# Altium footprint library TMDX654GPEVM_BRD.PcbLib: 153 footprints (part 10 of 12)
Each footprint in its own frame and in the unit in brackets; x right, y up, seen from the top. Pads: shape width x height; smd on the part's side, far side on the other; paste and mask are expansions set on the pad; w line width, h text height; cw(c..) or ccw(c..) is an arc to the next point about the centre after c.
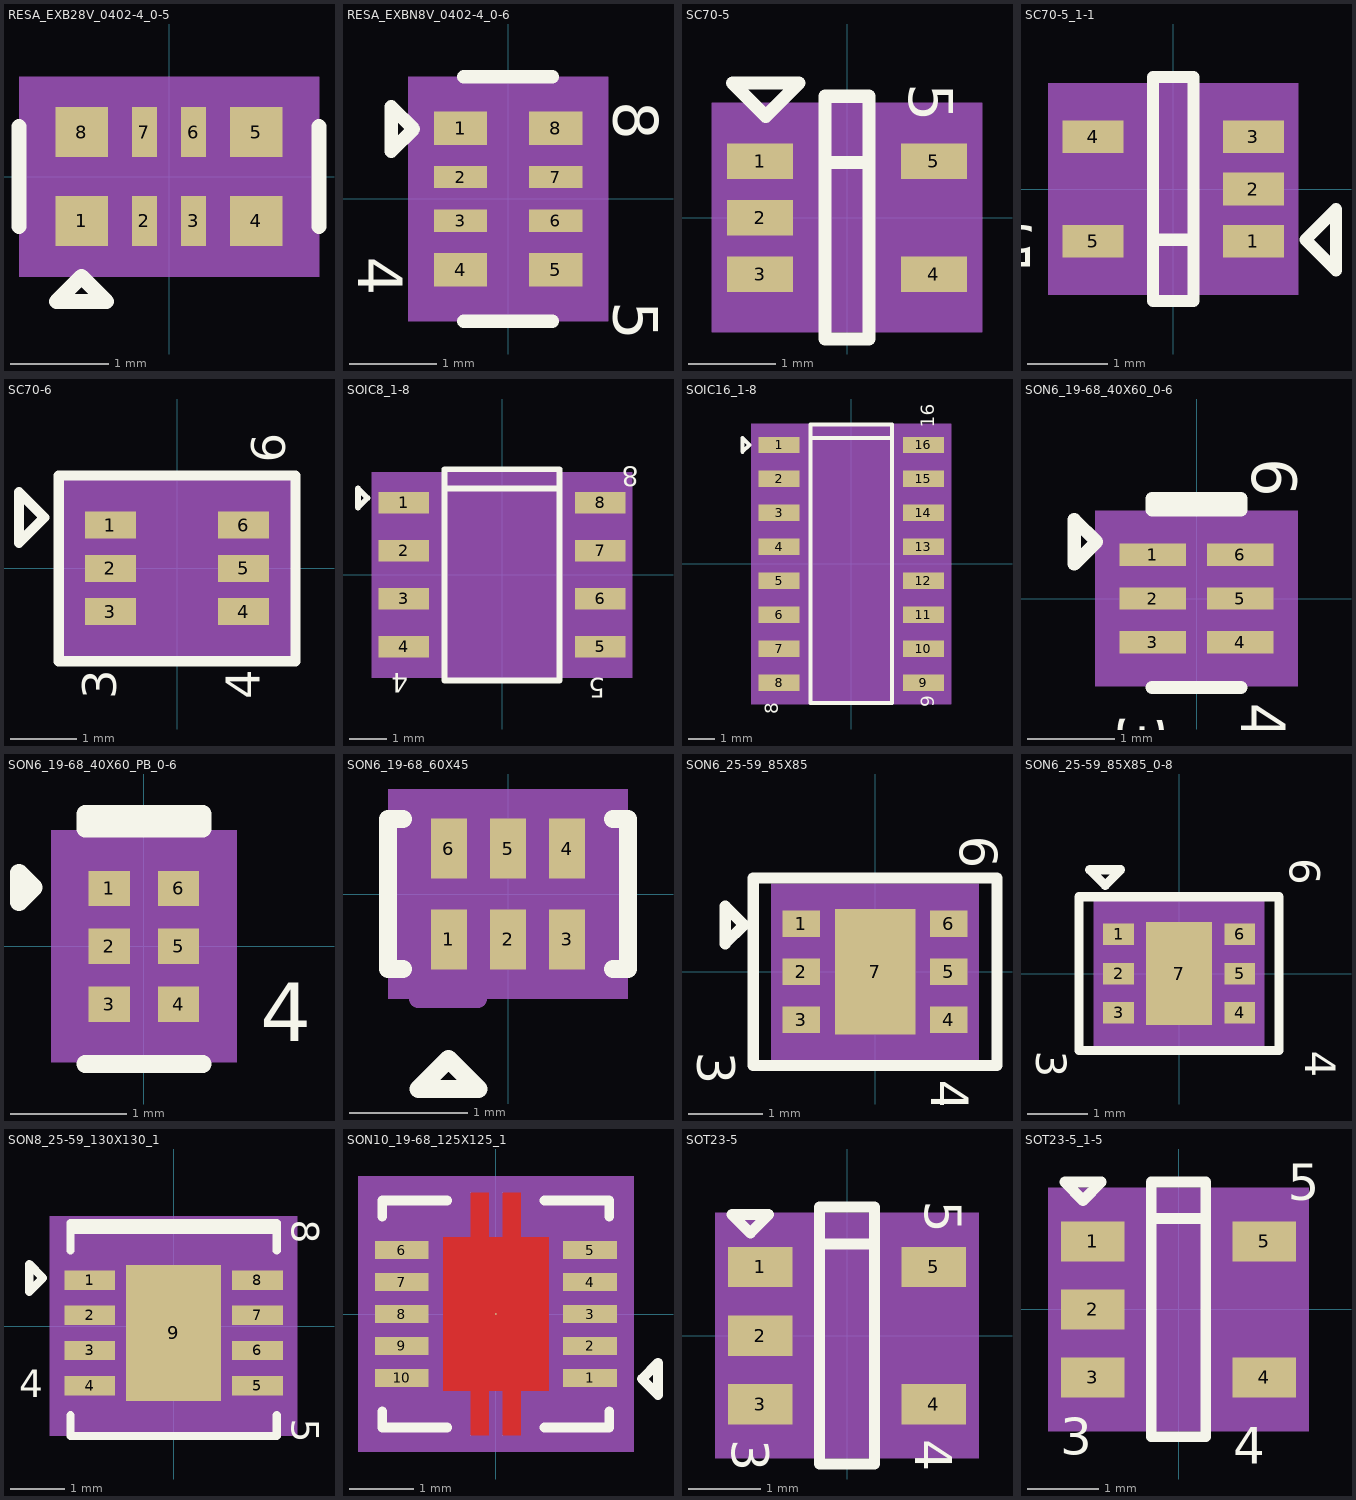
[diagram p9: the footprints below, top view; thin cyan lines are the x and y axes]

## RESA_EXB28V_0402-4_0-5 [mil] "RESA_EXB28V_0402-4_0-5"
pads (8):
  rect 21x20 smd: 1(-34.94,-17.72) 4(34.94,-17.72) 5(34.94,17.72) 8(-34.94,17.72)
  rect 10x20 smd: 2(-9.84,-17.72) 3(9.84,-17.72) 6(9.84,17.72) 7(-9.84,17.72)
Top Overlay:
  lines w6: -60,-20 -60,20 ; 60,-20 60,20 ; -45,-50 -35,-40 -25,-50 -45,-50
  text ".Designator" at 51.5,-50.02 h30
Top Courtyard:
  dashed: -52.44,-34.72 -52.44,34.72 52.44,34.72 52.44,-34.72
Top 3D Body:
  region: -60,40 -60,-40 60,-40 60,40
Mechanical 10:
  lines w6: -45,-35 -35,-25 -25,-35 -45,-35 ; -40,-20 40,-20 40,20 -40,20 -40,-20
  text "RA4" at 20.5,-103.02 h30
Mechanical 11:
  lines w6: -45,-35 -35,-25 -25,-35 -45,-35 ; -40,-20 40,-20 40,20 -40,20 -40,-20
  text "RA4" at 20.5,-103.02 h30
Mechanical 12:
  lines w6: -45,-35 -35,-25 -25,-35 -45,-35 ; -40,-20 40,-20 40,20 -40,20 -40,-20
  text "RA4" at 20.5,-103.02 h30
Mechanical 13:
  lines w6: -45,-35 -35,-25 -25,-35 -45,-35 ; -40,-20 40,-20 40,20 -40,20 -40,-20
  text "RA4" at 20.5,-103.02 h30
Mechanical 14:
  lines w6: -45,-35 -35,-25 -25,-35 -45,-35 ; -40,-20 40,-20 40,20 -40,20 -40,-20
  text "RA4" at 20.5,-103.02 h30
Mechanical47:
  text "8" at -34.94,8.72 h10
  text "7" at -9.84,8.72 h10
  text "1" at -34.94,-26.72 h10
  text "6" at 9.84,8.72 h10
  text "2" at -9.84,-26.72 h10
  text "4" at 34.94,-26.72 h10
  text "3" at 9.84,-26.72 h10
  text "5" at 34.94,8.72 h10
Top Assembly:
  lines w6: -45,-35 -35,-25 -25,-35 -45,-35 ; -40,-20 40,-20 40,20 -40,20 -40,-20
3D body: height 150, standoff 0, extent -60,-40 60,40

## RESA_EXBN8V_0402-4_0-6 [mil] "RESA_EXBN8V_0402-4_0-6"
pads (8):
  rect 24x15 smd: 1(-21.41,31.79) 4(-21.41,-31.79) 5(21.41,-31.79) 8(21.41,31.79)
  rect 24x10 smd: 2(-21.41,9.84) 3(-21.41,-9.84) 6(21.41,-9.84) 7(21.41,9.84)
Top Overlay:
  lines w6: -20,-55 20,-55 ; -20,55 20,55 ; -52.55,21.48 -52.55,41.48 -42.55,31.48 -52.55,21.48
  text ".Designator" at -34,70 h30
  text "4" at -67.55,-26.02 h20
  text "5" at 47.45,-46.02 h20
  text "8" at 47.45,43.98 h20
Top Courtyard:
  dashed: -39.41,-47 -39.41,47 39.41,47 39.41,-47
Top 3D Body:
  region: -45,55 -45,-55 45,-55 45,55
Mechanical 15:
  lines w6: -30,30 -30,40 -25,35 -30,30 ; -20,-40 20,-40 20,40 -20,40 -20,-40
  text "RA17" at 32.45,42.48 h30
Mechanical 16:
  lines w6: -30,30 -30,40 -25,35 -30,30 ; -20,-40 20,-40 20,40 -20,40 -20,-40
  text "RA17" at 32.45,42.48 h30
Mechanical 17:
  lines w6: -30,30 -30,40 -25,35 -30,30 ; -20,-40 20,-40 20,40 -20,40 -20,-40
  text "RA17" at 32.45,42.48 h30
Mechanical 18:
  lines w6: -30,30 -30,40 -25,35 -30,30 ; -20,-40 20,-40 20,40 -20,40 -20,-40
  text "RA17" at 32.45,42.48 h30
Mechanical 19:
  lines w6: -30,30 -30,40 -25,35 -30,30 ; -20,-40 20,-40 20,40 -20,40 -20,-40
  text "RA17" at 32.45,42.48 h30
Mechanical47:
  text "4" at -21.41,-40.79 h10
  text "6" at 21.41,-18.84 h10
  text "8" at 21.41,22.79 h10
  text "1" at -21.41,22.79 h10
  text "7" at 21.41,0.84 h10
  text "3" at -21.41,-18.84 h10
  text "2" at -21.41,0.84 h10
  text "5" at 21.41,-40.79 h10
Top Assembly:
  lines w6: -30,30 -30,40 -25,35 -30,30 ; -20,-40 20,-40 20,40 -20,40 -20,-40
3D body: height 150, standoff 0, extent -45,-55 45,55

## SC70-5 [mil] "SC70-5"
pads (5):
  rect 30x16 smd: 1(-39.37,25.59) 2(-39.37,0) 3(-39.37,-25.59) 4(39.37,-25.59) 5(39.37,25.59)
Top Overlay:
  lines w6: -10,25 10,25 -10,25 ; -10,25 -10,-55 10,-55 10,55 -10,55 -10,25 ; -51.82,61 -21.82,61 -36.82,46 -51.82,61
  text "5" at 28.18,61 h20
  text ".Designator" at -30.82,83.5 h30
Top Courtyard:
  dashed: -61.37,-52 -61.37,52 61.37,52 61.37,-52
Top 3D Body:
  region: -60,-50 -60,50 60,50 60,-50
Mechanical 10:
  lines w6: -30,35 -30,-45 30,-45 30,45 -30,45 -30,35 ; -30,35 30,35 -30,35 ; -50,10 -50,40 -35,25 -50,10
  text "U36" at -16.82,-57.5 h30
Mechanical 11:
  lines w6: -30,35 -30,-45 30,-45 30,45 -30,45 -30,35 ; -30,35 30,35 -30,35 ; -50,10 -50,40 -35,25 -50,10
  text "U36" at -16.82,-57.5 h30
Mechanical 12:
  lines w6: -30,35 -30,-45 30,-45 30,45 -30,45 -30,35 ; -30,35 30,35 -30,35 ; -50,10 -50,40 -35,25 -50,10
  text "U36" at -16.82,-57.5 h30
Mechanical 13:
  lines w6: -30,35 -30,-45 30,-45 30,45 -30,45 -30,35 ; -30,35 30,35 -30,35 ; -50,10 -50,40 -35,25 -50,10
  text "U36" at -16.82,-57.5 h30
Mechanical 14:
  lines w6: -30,35 -30,-45 30,-45 30,45 -30,45 -30,35 ; -30,35 30,35 -30,35 ; -50,10 -50,40 -35,25 -50,10
  text "U36" at -16.82,-57.5 h30
Mechanical47:
  text "5" at 39.37,29.59 h10
  text "3" at -39.37,-21.59 h10
  text "4" at 39.37,-21.59 h10
  text "2" at -39.37,4 h10
  text "1" at -39.37,29.59 h10
Top Assembly:
  lines w6: -30,35 30,35 -30,35 ; -30,35 -30,45 30,45 30,-45 -30,-45 -30,35 ; -50,10 -50,40 -35,25 -50,10
3D body: height 150, standoff 0, extent -60,-50 60,50

## SC70-5_1-1 [mil] "SC70-5_1-1"
pads (5):
  rect 30x16 smd: 1(39.37,-25.59) 2(39.37,0) 3(39.37,25.59) 4(-39.37,25.59) 5(-39.37,-25.59)
Top Overlay:
  lines w6: 10,-25 -10,-25 10,-25 ; 10,-25 10,55 -10,55 -10,-55 10,-55 10,-25 ; 65,-25 80,-40 80,-10 65,-25
  text "5" at -67.5,-18.33 h20
  text ".Designator" at 22,-70 h30
Top Courtyard:
  dashed: 61.37,52 61.37,-52 -61.37,-52 -61.37,52
Top 3D Body:
  region: 60,50 60,-50 -60,-50 -60,50
Mechanical 15:
  lines w6: 30,-35 30,45 -30,45 -30,-45 30,-45 30,-35 ; 30,-35 -30,-35 30,-35 ; 35,-25 50,-40 50,-10 35,-25
  text "U107" at 43.5,-63.17 h30
Mechanical 16:
  lines w6: 30,-35 30,45 -30,45 -30,-45 30,-45 30,-35 ; 30,-35 -30,-35 30,-35 ; 35,-25 50,-40 50,-10 35,-25
  text "U107" at 43.5,-63.17 h30
Mechanical 17:
  lines w6: 30,-35 30,45 -30,45 -30,-45 30,-45 30,-35 ; 30,-35 -30,-35 30,-35 ; 35,-25 50,-40 50,-10 35,-25
  text "U107" at 43.5,-63.17 h30
Mechanical 18:
  lines w6: 30,-35 30,45 -30,45 -30,-45 30,-45 30,-35 ; 30,-35 -30,-35 30,-35 ; 35,-25 50,-40 50,-10 35,-25
  text "U107" at 43.5,-63.17 h30
Mechanical 19:
  lines w6: 30,-35 30,45 -30,45 -30,-45 30,-45 30,-35 ; 30,-35 -30,-35 30,-35 ; 35,-25 50,-40 50,-10 35,-25
  text "U107" at 43.5,-63.17 h30
Mechanical47:
  text "1" at 35.37,-25.59 h10
  text "3" at 35.37,25.59 h10
  text "5" at -43.37,-25.59 h10
  text "4" at -43.37,25.59 h10
  text "2" at 35.37,0 h10
Top Assembly:
  lines w6: 30,-35 -30,-35 30,-35 ; 30,-35 30,-45 -30,-45 -30,45 30,45 30,-35 ; 35,-25 50,-40 50,-10 35,-25
3D body: height 150, standoff 0, extent -60,-50 60,50

## SC70-6 [mil] "SC70-6"
pads (6):
  rect 30x16 smd: 1(-39.37,25.59) 2(-39.37,0) 3(-39.37,-25.59) 4(39.37,-25.59) 5(39.37,0) 6(39.37,25.59)
Top Overlay:
  lines w6: -93.5,15.05 -78.5,30.05 -93.5,45.05 -93.5,20.05 -93.5,15.05 ; -70,-55 -70,55 70,55 70,-55 -70,-55
  text "3" at -36,-77.45 h20
  text "4" at 49,-77.45 h20
  text ".Designator" at 33,100.05 h30
  text "6" at 64,62.55 h20
Top Courtyard:
  dashed: -61.37,-52 -61.37,52 61.37,52 61.37,-52
Top 3D Body:
  region: -70,-55 70,-55 70,55 -70,55
Mechanical 10:
  lines w6: -42.5,10 -27.5,25 -42.5,40 -42.5,15 -42.5,10 ; -25,-45 25,-45 25,45 -25,45 -25,-45
  text "U50" at 14,-123.95 h30
Mechanical 11:
  lines w6: -42.5,10 -27.5,25 -42.5,40 -42.5,15 -42.5,10 ; -25,-45 25,-45 25,45 -25,45 -25,-45
  text "U50" at 14,-123.95 h30
Mechanical 12:
  lines w6: -42.5,10 -27.5,25 -42.5,40 -42.5,15 -42.5,10 ; -25,-45 25,-45 25,45 -25,45 -25,-45
  text "U50" at 14,-123.95 h30
Mechanical 13:
  lines w6: -42.5,10 -27.5,25 -42.5,40 -42.5,15 -42.5,10 ; -25,-45 25,-45 25,45 -25,45 -25,-45
  text "U50" at 14,-123.95 h30
Mechanical 14:
  lines w6: -42.5,10 -27.5,25 -42.5,40 -42.5,15 -42.5,10 ; -25,-45 25,-45 25,45 -25,45 -25,-45
  text "U50" at 14,-123.95 h30
Mechanical47:
  text "4" at 39.37,-29.59 h10
  text "3" at -39.37,-29.59 h10
  text "5" at 39.37,-4 h10
  text "1" at -39.37,21.59 h10
  text "6" at 39.37,21.59 h10
  text "2" at -39.37,-4 h10
Top Assembly:
  lines w6: -42.5,10 -27.5,25 -42.5,40 -42.5,15 -42.5,10 ; -25,-45 25,-45 25,45 -25,45 -25,-45
3D body: height 150, standoff 0, extent -70,-55 70,55

## SOIC8_1-8 [mil] "SOIC8_1-8"
pads (8):
  rect 53x22 smd: 1(-102.36,75) 2(-102.36,25) 3(-102.36,-25) 4(-102.36,-75) 5(102.36,-75) 6(102.36,-25) 7(102.36,25) 8(102.36,75)
Top Overlay:
  lines w6: -60,90 60,90 ; -150,70 -150,90 -140,80 -150,70 ; -60,-110 60,-110 60,110 -60,110 -60,-110
  text ".Designator" at -21,-127.5 h30
  text "4" at -97.5,-102.5 h20
  text "5" at 107.5,-107.5 h20
  text "8" at 142.5,112.5 h20
Top Courtyard:
  dashed: -135.86,-107 -135.86,107 135.86,107 135.86,-107
Top 3D Body:
  region: -134,-104.5 -134,104.5 134,104.5 134,-104.5
Mechanical 15:
  lines w6: -80,80 80,80 ; -95,65 -95,85 -85,75 -95,65 ; -80,-100 80,-100 80,100 -80,100 -80,-100
  text "U91" at -36,7.5 h30
Mechanical 16:
  lines w6: -80,80 80,80 ; -95,65 -95,85 -85,75 -95,65 ; -80,-100 80,-100 80,100 -80,100 -80,-100
  text "U91" at -36,7.5 h30
Mechanical 17:
  lines w6: -80,80 80,80 ; -95,65 -95,85 -85,75 -95,65 ; -80,-100 80,-100 80,100 -80,100 -80,-100
  text "U91" at -36,7.5 h30
Mechanical 18:
  lines w6: -80,80 80,80 ; -95,65 -95,85 -85,75 -95,65 ; -80,-100 80,-100 80,100 -80,100 -80,-100
  text "U91" at -36,7.5 h30
Mechanical 19:
  lines w6: -80,80 80,80 ; -95,65 -95,85 -85,75 -95,65 ; -80,-100 80,-100 80,100 -80,100 -80,-100
  text "U91" at -36,7.5 h30
Mechanical47:
  text "8" at 98.36,75 h10
  text "4" at -106.36,-75 h10
  text "3" at -106.36,-25 h10
  text "1" at -106.36,75 h10
  text "2" at -106.36,25 h10
  text "7" at 98.36,25 h10
  text "5" at 98.36,-75 h10
  text "6" at 98.36,-25 h10
Top Assembly:
  lines w6: -80,80 80,80 ; -95,65 -95,85 -85,75 -95,65 ; -80,-100 80,-100 80,100 -80,100 -80,-100
3D body: height 150, standoff 0, extent -134,-104.5 134,104.5

## SOIC16_1-8 [mil] "SOIC16_1-8"
pads (16):
  rect 61x24 smd: 1(-106.3,175) 2(-106.3,125) 3(-106.3,75) 4(-106.3,25) 5(-106.3,-25) 6(-106.3,-75) 7(-106.3,-125) 8(-106.3,-175) 9(106.3,-175) 10(106.3,-125) 11(106.3,-75) 12(106.3,-25) 13(106.3,25) 14(106.3,75) 15(106.3,125) 16(106.3,175)
Top Overlay:
  lines w6: -60,185 60,185 ; -160,165 -160,185 -150,175 -160,165 ; -60,-205 60,-205 60,205 -60,205 -60,-205
  text ".Designator" at 36.5,251.5 h30
  text "8" at -107.5,-221 h20
  text "9" at 122.5,-211 h20
  text "16" at 122.5,200.5 h20
Top Courtyard:
  dashed: -143.8,-202 -143.8,202 143.8,202 143.8,-202
Top 3D Body:
  region: -147.5,-206.5 -147.5,206.5 147.5,206.5 147.5,-206.5
Mechanical 15:
  lines w6: -80,175 80,175 ; -95,165 -95,185 -85,175 -95,165 ; -80,-195 80,-195 80,195 -80,195 -80,-195
  text "U84" at 27.5,27.5 h30
Mechanical 16:
  lines w6: -80,175 80,175 ; -95,165 -95,185 -85,175 -95,165 ; -80,-195 80,-195 80,195 -80,195 -80,-195
  text "U84" at 27.5,27.5 h30
Mechanical 17:
  lines w6: -80,175 80,175 ; -95,165 -95,185 -85,175 -95,165 ; -80,-195 80,-195 80,195 -80,195 -80,-195
  text "U84" at 27.5,27.5 h30
Mechanical 18:
  lines w6: -80,175 80,175 ; -95,165 -95,185 -85,175 -95,165 ; -80,-195 80,-195 80,195 -80,195 -80,-195
  text "U84" at 27.5,27.5 h30
Mechanical 19:
  lines w6: -80,175 80,175 ; -95,165 -95,185 -85,175 -95,165 ; -80,-195 80,-195 80,195 -80,195 -80,-195
  text "U84" at 27.5,27.5 h30
Mechanical47:
  text "1" at -109.63,175.67 h10
  text "16" at 109.63,179.67 h10
  text "8" at -109.63,-174.33 h10
  text "9" at 109.63,-174.33 h10
  text "10" at 109.63,-120.33 h10
  text "7" at -109.63,-124.33 h10
  text "2" at -109.63,125.67 h10
  text "15" at 109.63,129.67 h10
  text "14" at 109.63,79.67 h10
  text "13" at 109.63,29.67 h10
  text "12" at 109.63,-20.33 h10
  text "11" at 109.63,-70.33 h10
  text "6" at -109.63,-74.33 h10
  text "5" at -109.63,-24.33 h10
  text "4" at -109.63,25.67 h10
  text "3" at -109.63,75.67 h10
Top Assembly:
  lines w6: -80,175 80,175 ; -95,165 -95,185 -85,175 -95,165 ; -80,-195 80,-195 80,195 -80,195 -80,-195
3D body: height 150, standoff 0, extent -147.5,-206.5 147.5,206.5

## SON6_19-68_40X60_0-6 [mil] "SON6_19-68_40X60_0-6"
pads (6):
  rect 30x10 smd: 1(-19.68,19.68) 2(-19.68,0) 3(-19.68,-19.68) 4(19.68,-19.68) 5(19.68,0) 6(19.68,19.68)
Top Overlay:
  lines w6: -20,-40 20,-40 ; -55,15.55 -55,35.55 -45,25.55 -55,15.55 ; -20,40 20,40 20,45 -20,45 -20,40
  text ".Designator" at -54,55.55 h30
  text "3" at -35,-51.95 h20
  text "4" at 20,-46.95 h20
  text "6" at 25,63.05 h20
Top Courtyard:
  dashed: -40.69,-37 -40.69,37 40.69,37 40.69,-37
Top 3D Body:
  region: -45.5,-39.5 -45.5,39.5 45.5,39.5 45.5,-39.5
Mechanical 10:
  lines w6: -20,20 -20,30 20,30 20,-30 -20,-30 -20,20 ; -20,20 20,20 -20,20 ; -35,10 -35,30 -25,20 -35,10
  text "U49" at -20,111.55 h30
Mechanical 11:
  lines w6: -20,20 -20,30 20,30 20,-30 -20,-30 -20,20 ; -20,20 20,20 -20,20 ; -35,10 -35,30 -25,20 -35,10
  text "U49" at -20,111.55 h30
Mechanical 12:
  lines w6: -20,20 -20,30 20,30 20,-30 -20,-30 -20,20 ; -20,20 20,20 -20,20 ; -35,10 -35,30 -25,20 -35,10
  text "U49" at -20,111.55 h30
Mechanical 13:
  lines w6: -20,20 -20,30 20,30 20,-30 -20,-30 -20,20 ; -20,20 20,20 -20,20 ; -35,10 -35,30 -25,20 -35,10
  text "U49" at -20,111.55 h30
Mechanical 14:
  lines w6: -20,20 -20,30 20,30 20,-30 -20,-30 -20,20 ; -20,20 20,20 -20,20 ; -35,10 -35,30 -25,20 -35,10
  text "U49" at -20,111.55 h30
Mechanical47:
  text "6" at 19.68,18.68 h10
  text "3" at -19.68,-20.68 h10
  text "5" at 19.68,-1 h10
  text "4" at 19.68,-20.68 h10
  text "2" at -19.68,-1 h10
  text "1" at -19.68,18.68 h10
Top Assembly:
  lines w6: -20,20 20,20 -20,20 ; -20,20 -20,-30 20,-30 20,30 -20,30 -20,20 ; -35,10 -35,30 -25,20 -35,10
3D body: height 150, standoff 0, extent -45.5,-39.5 45.5,39.5

## SON6_19-68_40X60_PB_0-6 [mil] "SON6_19-68_40X60_PB_0-6"
pads (6):
  rect 14x12 smd: 1(-11.81,19.68) 2(-11.81,0) 3(-11.81,-19.68) 4(11.81,-19.68) 5(11.81,0) 6(11.81,19.68)
Top Overlay:
  lines w6: -20,-40 20,-40 ; -42.5,15 -42.5,25 -37.5,20 -42.5,15 ; -20,40 -20,45 20,45 20,40 -20,40
  text ".Designator" at -19.95,57.64 h30
  text "4" at 39.55,-32.36 h20
Top Courtyard:
  lines w1: -27,-37 27,-37 27,37 -27,37 -27,-37
Top 3D Body:
  region: -31.5,-39.5 -31.5,39.5 31.5,39.5 31.5,-39.5
Mechanical 10:
  lines w6: -25,15 -25,25 -20,20 -25,15 ; -20,-30 20,-30 20,30 -20,30 -20,-30
  text "U4" at -21.95,42.64 h30
Mechanical 11:
  lines w6: -25,15 -25,25 -20,20 -25,15 ; -20,-30 20,-30 20,30 -20,30 -20,-30
  text "U4" at -21.95,42.64 h30
Mechanical 12:
  lines w6: -25,15 -25,25 -20,20 -25,15 ; -20,-30 20,-30 20,30 -20,30 -20,-30
  text "U4" at -21.95,42.64 h30
Mechanical 13:
  lines w6: -25,15 -25,25 -20,20 -25,15 ; -20,-30 20,-30 20,30 -20,30 -20,-30
  text "U4" at -21.95,42.64 h30
Mechanical 14:
  lines w6: -25,15 -25,25 -20,20 -25,15 ; -20,-30 20,-30 20,30 -20,30 -20,-30
  text "U4" at -21.95,42.64 h30
Mechanical47:
  text "1" at -15.81,19.68 h10
  text "2" at -15.81,0 h10
  text "3" at -15.81,-19.68 h10
  text "6" at 7.81,19.68 h10
  text "4" at 7.81,-19.68 h10
  text "5" at 7.81,0 h10
Top Assembly:
  lines w6: -25,15 -25,25 -20,20 -25,15 ; -20,-30 20,-30 20,30 -20,30 -20,-30
3D body: height 150, standoff 0, extent -31.5,-39.5 31.5,39.5

## SON6_19-68_60X45 [mil] "SON6_19-68_60X45"
pads (6):
  rect 12x20 smd: 1(-19.68,-15.16) 2(0,-15.16) 3(19.68,-15.16) 4(19.68,15.16) 5(0,15.16) 6(-19.68,15.16)
Top Overlay:
  lines w6: -35,-25 -40,-25 -40,25 -35,25 ; 35,-25 40,-25 40,25 35,25 ; -29.86,-65 -19.86,-55 -9.86,-65 -29.86,-65
  text ".Designator" at 50.14,9 h30
Top Courtyard:
  dashed: -37,-31.16 -37,31.16 37,31.16 37,-31.16
Top 3D Body:
  region: -40,-35 -40,35 40,35 40,-35
Mechanical 10:
  lines w6: -30,-35 -20,-25 -10,-35 -30,-35 ; -30,-20 30,-20 30,20 -30,20 -30,-20
  text "U58" at 109.14,15 h30
Mechanical 11:
  lines w6: -30,-35 -20,-25 -10,-35 -30,-35 ; -30,-20 30,-20 30,20 -30,20 -30,-20
  text "U58" at 109.14,15 h30
Mechanical 12:
  lines w6: -30,-35 -20,-25 -10,-35 -30,-35 ; -30,-20 30,-20 30,20 -30,20 -30,-20
  text "U58" at 109.14,15 h30
Mechanical 13:
  lines w6: -30,-35 -20,-25 -10,-35 -30,-35 ; -30,-20 30,-20 30,20 -30,20 -30,-20
  text "U58" at 109.14,15 h30
Mechanical 14:
  lines w6: -30,-35 -20,-25 -10,-35 -30,-35 ; -30,-20 30,-20 30,20 -30,20 -30,-20
  text "U58" at 109.14,15 h30
Mechanical47:
  text "1" at -15.69,-15.16 h10
  text "2" at 4,-15.16 h10
  text "3" at 23.68,-15.16 h10
  text "4" at 23.68,15.16 h10
  text "6" at -15.69,15.16 h10
  text "5" at 4,15.16 h10
Top Assembly:
  lines w6: -30,-35 -20,-25 -10,-35 -30,-35 ; -30,-20 30,-20 30,20 -30,20 -30,-20
3D body: height 150, standoff 0, extent -40,-35 40,35

## SON6_25-59_85X85 [mil] "SON6_25-59_85X85"
pads (7):
  rect 20x14 smd: 1(-39.37,25.59) 2(-39.37,0) 3(-39.37,-25.59) 4(39.37,-25.59) 5(39.37,0) 6(39.37,25.59)
  rect 43x67 smd: 7(0,0)
Top Overlay:
  lines w6: -80,15 -80,35 -70,25 -80,15 ; -65,-50 65,-50 65,50 -65,50 -65,-50
  text "3" at -95,-42.5 h20
  text ".Designator" at -54,-105 h30
  text "6" at 45,72.5 h20
  text "4" at 30,-57.5 h20
Top Courtyard:
  dashed: -55.37,-47 -55.37,47 55.37,47 55.37,-47
Top 3D Body:
  region: -53.5,-45.5 -53.5,45.5 53.5,45.5 53.5,-45.5
Mechanical 15:
  lines w6: -40,35 -40,40 40,40 40,-40 -40,-40 -40,35 ; -40,35 -30,25 -40,15 -40,35
  text "U76" at -20,-51 h30
Mechanical 16:
  lines w6: -40,35 -40,40 40,40 40,-40 -40,-40 -40,35 ; -40,35 -30,25 -40,15 -40,35
  text "U76" at -20,-51 h30
Mechanical 17:
  lines w6: -40,35 -40,40 40,40 40,-40 -40,-40 -40,35 ; -40,35 -30,25 -40,15 -40,35
  text "U76" at -20,-51 h30
Mechanical 18:
  lines w6: -40,35 -40,40 40,40 40,-40 -40,-40 -40,35 ; -40,35 -30,25 -40,15 -40,35
  text "U76" at -20,-51 h30
Mechanical 19:
  lines w6: -40,35 -40,40 40,40 40,-40 -40,-40 -40,35 ; -40,35 -30,25 -40,15 -40,35
  text "U76" at -20,-51 h30
Mechanical47:
  text "3" at -39.37,-29.59 h10
  text "7" at 0,-4 h10
  text "1" at -39.37,21.59 h10
  text "2" at -39.37,-4 h10
  text "4" at 39.37,-29.59 h10
  text "6" at 39.37,21.59 h10
  text "5" at 39.37,-4 h10
Top Assembly:
  lines w6: -40,35 -40,40 40,40 40,-40 -40,-40 -40,35 ; -40,35 -30,25 -40,15 -40,35
3D body: height 150, standoff 0, extent -53.5,-45.5 53.5,45.5

## SON6_25-59_85X85_0-8 [mil] "SON6_25-59_85X85_0-8"
pads (7):
  rect 20x14 smd: 1(-39.37,25.59) 2(-39.37,0) 3(-39.37,-25.59) 4(39.37,-25.59) 5(39.37,0) 6(39.37,25.59)
  rect 43x67 smd: 7(0,0)
Top Overlay:
  lines w6: -65,-50 65,-50 65,50 -65,50 -65,-50 ; -58.01,67.48 -38.01,67.48 -48.01,57.48 -58.01,67.48
  text "3" at -93.01,-50.02 h20
  text ".Designator" at -17.01,62.48 h30
  text "6" at 71.99,74.98 h20
  text "4" at 81.99,-50.02 h20
Top Courtyard:
  dashed: -55.37,-47 -55.37,47 55.37,47 55.37,-47
Top 3D Body:
  region: -53.5,-45.5 -53.5,45.5 53.5,45.5 53.5,-45.5
Mechanical 15:
  lines w6: -40,35 -40,40 40,40 40,-40 -40,-40 -40,35 ; -40,35 -30,25 -40,15 -40,35
  text "U60" at -14.01,33.48 h30
Mechanical 16:
  lines w6: -40,35 -40,40 40,40 40,-40 -40,-40 -40,35 ; -40,35 -30,25 -40,15 -40,35
  text "U60" at -14.01,33.48 h30
Mechanical 17:
  lines w6: -40,35 -40,40 40,40 40,-40 -40,-40 -40,35 ; -40,35 -30,25 -40,15 -40,35
  text "U60" at -14.01,33.48 h30
Mechanical 18:
  lines w6: -40,35 -40,40 40,40 40,-40 -40,-40 -40,35 ; -40,35 -30,25 -40,15 -40,35
  text "U60" at -14.01,33.48 h30
Mechanical 19:
  lines w6: -40,35 -40,40 40,40 40,-40 -40,-40 -40,35 ; -40,35 -30,25 -40,15 -40,35
  text "U60" at -14.01,33.48 h30
Mechanical47:
  text "4" at 39.37,-29.59 h10
  text "6" at 39.37,21.59 h10
  text "3" at -39.37,-29.59 h10
  text "5" at 39.37,-4 h10
  text "7" at 0,-4 h10
  text "1" at -39.37,21.59 h10
  text "2" at -39.37,-4 h10
Top Assembly:
  lines w6: -40,35 -40,40 40,40 40,-40 -40,-40 -40,35 ; -40,35 -30,25 -40,15 -40,35
3D body: height 150, standoff 0, extent -53.5,-45.5 53.5,45.5

## SON8_25-59_130X130_1 [mil] "SON8_25-59_130X130_1"
pads (9):
  rect 37x14 smd: 1(-61.02,33.39) 2(-61.02,7.8) 3(-61.02,-17.8) 4(-61.02,-43.39) 5(61.02,-43.39) 6(61.02,-17.8) 7(61.02,7.8) 8(61.02,33.39)
  rect 69x99 smd: 9(0,-5)
Top Overlay:
  lines w6: -75,-65 -75,-80 75,-80 75,-65 ; -75,55 -75,70 ; 75,55 75,75 -75,75 -75,70 ; -75,70 75,70 -75,70 ; -105,25 -105,45 -95,35 -105,25
  text ".Designator" at 97.5,54 h30
  text "4" at -112.5,-51.67 h20
  text "5" at 85.83,-67.5 h20
  text "8" at 85.83,77.5 h20
Top Courtyard:
  dashed: -86.52,-77 -86.52,67 86.52,67 86.52,-77
Top 3D Body:
  region: -90,-80 90,-80 90,80 -90,80
Mechanical 10:
  lines w6: -65,50 65,50 ; -80,25 -80,45 -70,35 -80,25 ; -65,-70 65,-70 65,60 -65,60 -65,-70
  text "U57" at -17.5,27 h30
Mechanical 11:
  lines w6: -65,50 65,50 ; -80,25 -80,45 -70,35 -80,25 ; -65,-70 65,-70 65,60 -65,60 -65,-70
  text "U57" at -17.5,27 h30
Mechanical 12:
  lines w6: -65,50 65,50 ; -80,25 -80,45 -70,35 -80,25 ; -65,-70 65,-70 65,60 -65,60 -65,-70
  text "U57" at -17.5,27 h30
Mechanical 13:
  lines w6: -65,50 65,50 ; -80,25 -80,45 -70,35 -80,25 ; -65,-70 65,-70 65,60 -65,60 -65,-70
  text "U57" at -17.5,27 h30
Mechanical 14:
  lines w6: -65,50 65,50 ; -80,25 -80,45 -70,35 -80,25 ; -65,-70 65,-70 65,60 -65,60 -65,-70
  text "U57" at -17.5,27 h30
Mechanical47:
  text "5" at 61.02,-44.39 h10
  text "9" at 0,-1 h10
  text "6" at 61.02,-18.8 h10
  text "8" at 61.02,32.39 h10
  text "2" at -61.02,6.8 h10
  text "1" at -61.02,32.39 h10
  text "4" at -61.02,-44.39 h10
  text "3" at -61.02,-18.8 h10
  text "7" at 61.02,6.8 h10
Top Assembly:
  lines w6: -65,50 65,50 ; -80,25 -80,45 -70,35 -80,25 ; -65,-70 65,-70 65,60 -65,60 -65,-70
3D body: height 150, standoff 0, extent -90,-80 90,80

## SON10_19-68_125X125_1 [mil] "SON10_19-68_125X125_1"
pads (11):
  rect 33x11 smd: 1(58.07,-39.37) 2(58.07,-19.68) 3(58.07,0) 4(58.07,19.68) 5(58.07,39.37) 6(-58.07,39.37) 7(-58.07,19.68) 8(-58.07,0) 9(-58.07,-19.68) 10(-58.07,-39.37)
  oct 1x1 smd: 11(0,0)
Top Layer:
  region: 32.48,47.24 15.35,47.24 15.35,74.8 4.33,74.8 4.33,47.24 -4.33,47.24 -4.33,74.8 -15.35,74.8 -15.35,47.24 -32.48,47.24 -32.48,-47.24 -15.35,-47.24 -15.35,-74.8 -4.33,-74.8 -4.33,-47.24 4.33,-47.24 4.33,-74.8 15.35,-74.8 15.35,-47.24 32.48,-47.24
  region: 32.48,47.24 15.35,47.24 15.35,74.8 4.33,74.8 4.33,47.24 -4.33,47.24 -4.33,74.8 -15.35,74.8 -15.35,47.24 -32.48,47.24 -32.48,-47.24 -15.35,-47.24 -15.35,-74.8 -4.33,-74.8 -4.33,-47.24 4.33,-47.24 4.33,-74.8 15.35,-74.8 15.35,-47.24 32.48,-47.24
Top Overlay:
  lines w6: -70,-60 -70,-70 -30,-70 ; -70,60 -70,70 -30,70 ; 30,-70 70,-70 70,-60 ; 30,70 70,70 70,60 ; 90,-40 100,-50 100,-30 90,-40
  text ".Designator" at -85,-76 h30
Top Paste:
  dashed: 14.96,-54.33 14.96,-74.02 4.72,-74.02 4.72,-54.33
  dashed: -4.72,-54.33 -4.72,-74.02 -14.96,-74.02 -14.96,-54.33
  dashed: 14.96,74.02 14.96,54.33 4.72,54.33 4.72,74.02
  dashed: -4.72,74.02 -4.72,54.33 -14.96,54.33 -14.96,74.02
  dashed: 31.1,-4.33 31.1,-45.67 4.33,-45.67 4.33,-4.33
  dashed: -4.33,-4.33 -4.33,-45.67 -31.1,-45.67 -31.1,-4.33
  dashed: 31.1,45.67 31.1,4.33 4.33,4.33 4.33,45.67
  dashed: -4.33,45.67 -4.33,4.33 -31.1,4.33 -31.1,45.67
Top Solder:
  region: 35.48,-50.24 18.35,-50.24 18.35,-77.8 1.33,-77.8 1.33,-50.24 -1.33,-50.24 -1.33,-77.8 -18.35,-77.8 -18.35,-50.24 -35.48,-50.24 -35.48,50.24 -18.35,50.24 -18.35,77.8 -1.33,77.8 -1.33,50.24 1.33,50.24 1.33,77.8 18.35,77.8 18.35,50.24 35.48,50.24
  region: 35.48,-50.24 18.35,-50.24 18.35,-77.8 1.33,-77.8 1.33,-50.24 -1.33,-50.24 -1.33,-77.8 -18.35,-77.8 -18.35,-50.24 -35.48,-50.24 -35.48,50.24 -18.35,50.24 -18.35,77.8 -1.33,77.8 -1.33,50.24 1.33,50.24 1.33,77.8 18.35,77.8 18.35,50.24 35.48,50.24
Top Courtyard:
  dashed: 80.57,81.8 80.57,-81.8 -80.57,-81.8 -80.57,81.8
Top 3D Body:
  region: 85,-85 85,85 -85,85 -85,-85
Mechanical 15:
  lines w6: 60,-50 60,-60 -60,-60 -60,60 60,60 60,-50 ; 60,-50 -60,-50 60,-50 ; 60,-40 70,-50 70,-30 60,-40
  text "U80" at 29,15 h30
Mechanical 16:
  lines w6: 60,-50 60,-60 -60,-60 -60,60 60,60 60,-50 ; 60,-50 -60,-50 60,-50 ; 60,-40 70,-50 70,-30 60,-40
  text "U80" at 29,15 h30
Mechanical 17:
  lines w6: 60,-50 60,-60 -60,-60 -60,60 60,60 60,-50 ; 60,-50 -60,-50 60,-50 ; 60,-40 70,-50 70,-30 60,-40
  text "U80" at 29,15 h30
Mechanical 18:
  lines w6: 60,-50 60,-60 -60,-60 -60,60 60,60 60,-50 ; 60,-50 -60,-50 60,-50 ; 60,-40 70,-50 70,-30 60,-40
  text "U80" at 29,15 h30
Mechanical 19:
  lines w6: 60,-50 60,-60 -60,-60 -60,60 60,60 60,-50 ; 60,-50 -60,-50 60,-50 ; 60,-40 70,-50 70,-30 60,-40
  text "U80" at 29,15 h30
Mechanical47:
  text "10" at -66.07,-34.37 h10
  text "8" at -62.07,5 h10
  text "5" at 54.07,44.37 h10
  text "4" at 54.07,24.68 h10
  text "3" at 54.07,5 h10
  text "11" at -8,0 h10
  text "9" at -62.07,-14.69 h10
  text "6" at -62.07,44.37 h10
  text "7" at -62.07,24.68 h10
  text "2" at 54.07,-14.69 h10
  text "1" at 54.07,-34.37 h10
Top Assembly:
  lines w6: 60,-50 -60,-50 60,-50 ; 60,-50 60,60 -60,60 -60,-60 60,-60 60,-50 ; 60,-40 70,-50 70,-30 60,-40
Top Component Outline:
  text "5" at 102.5,51.67 h20
  text "6" at -87.5,51.67 h20
  text "10" at -89,-28.33 h20
3D body: height 150, standoff 0, extent -85,-85 85,85

## SOT23-5 [mil] "SOT23-5"
pads (5):
  rect 35x22 smd: 1(-47.24,37.4) 2(-47.24,0) 3(-47.24,-37.4) 4(47.24,-37.4) 5(47.24,37.4)
Top Overlay:
  lines w6: -15,50 15,50 ; -62.72,66.02 -42.72,66.02 -52.72,56.02 -62.72,66.02 ; -15,-70 15,-70 15,70 -15,70 -15,-70
  text ".Designator" at -56.72,76.02 h30
  text "3" at -62.72,-56.48 h20
  text "4" at 37.28,-56.48 h20
  text "5" at 42.28,73.52 h20
Top Courtyard:
  dashed: -71.74,-67 -71.74,67 71.74,67 71.74,-67
Top 3D Body:
  region: 69,63 69,-63 -69,-63 -69,63
Mechanical 10:
  lines w6: -35,40 35,40 ; -50,25 -50,45 -40,35 -50,25 ; -35,-60 35,-60 35,60 -35,60 -35,-60
  text "U48" at -17.72,27.02 h30
Mechanical 11:
  lines w6: -35,40 35,40 ; -50,25 -50,45 -40,35 -50,25 ; -35,-60 35,-60 35,60 -35,60 -35,-60
  text "U48" at -17.72,27.02 h30
Mechanical 12:
  lines w6: -35,40 35,40 ; -50,25 -50,45 -40,35 -50,25 ; -35,-60 35,-60 35,60 -35,60 -35,-60
  text "U48" at -17.72,27.02 h30
Mechanical 13:
  lines w6: -35,40 35,40 ; -50,25 -50,45 -40,35 -50,25 ; -35,-60 35,-60 35,60 -35,60 -35,-60
  text "U48" at -17.72,27.02 h30
Mechanical 14:
  lines w6: -35,40 35,40 ; -50,25 -50,45 -40,35 -50,25 ; -35,-60 35,-60 35,60 -35,60 -35,-60
  text "U48" at -17.72,27.02 h30
Mechanical47:
  text "2" at -47.24,4 h10
  text "3" at -47.24,-33.4 h10
  text "5" at 47.24,41.4 h10
  text "1" at -47.24,41.4 h10
  text "4" at 47.24,-33.4 h10
Top Assembly:
  lines w6: -35,40 35,40 ; -50,25 -50,45 -40,35 -50,25 ; -35,-60 35,-60 35,60 -35,60 -35,-60
3D body: height 150, standoff 0, extent -69,-63 69,63

## SOT23-5_1-5 [mil] "SOT23-5_1-5"
pads (5):
  rect 35x22 smd: 1(-47.24,37.4) 2(-47.24,0) 3(-47.24,-37.4) 4(47.24,-37.4) 5(47.24,37.4)
Top Overlay:
  lines w6: -15,50 15,50 ; -62.52,70 -42.52,70 -52.52,60 -62.52,70 ; -15,-70 15,-70 15,70 -15,70 -15,-70
  text ".Designator" at -20,85 h30
  text "3" at -65.02,-80 h20
  text "4" at 29.98,-85 h20
  text "5" at 59.98,60 h20
Top Courtyard:
  dashed: -71.74,-67 -71.74,67 71.74,67 71.74,-67
Top 3D Body:
  region: 69,63 69,-63 -69,-63 -69,63
Mechanical 10:
  lines w6: -35,40 35,40 ; -50,25 -50,45 -40,35 -50,25 ; -35,-60 35,-60 35,60 -35,60 -35,-60
  text "U17" at -33.52,75 h30
Mechanical 11:
  lines w6: -35,40 35,40 ; -50,25 -50,45 -40,35 -50,25 ; -35,-60 35,-60 35,60 -35,60 -35,-60
  text "U17" at -33.52,75 h30
Mechanical 12:
  lines w6: -35,40 35,40 ; -50,25 -50,45 -40,35 -50,25 ; -35,-60 35,-60 35,60 -35,60 -35,-60
  text "U17" at -33.52,75 h30
Mechanical 13:
  lines w6: -35,40 35,40 ; -50,25 -50,45 -40,35 -50,25 ; -35,-60 35,-60 35,60 -35,60 -35,-60
  text "U17" at -33.52,75 h30
Mechanical 14:
  lines w6: -35,40 35,40 ; -50,25 -50,45 -40,35 -50,25 ; -35,-60 35,-60 35,60 -35,60 -35,-60
  text "U17" at -33.52,75 h30
Mechanical47:
  text "5" at 43.24,37.4 h10
  text "2" at -51.24,0 h10
  text "4" at 43.24,-37.4 h10
  text "1" at -51.24,37.4 h10
  text "3" at -51.24,-37.4 h10
Top Assembly:
  lines w6: -35,40 35,40 ; -50,25 -50,45 -40,35 -50,25 ; -35,-60 35,-60 35,60 -35,60 -35,-60
3D body: height 150, standoff 0, extent -69,-63 69,63